# Altium schematic symbol library Schlib1.SchLib: 3 symbols
Pins are listed as number, name and electrical type; pins without a type are passive.

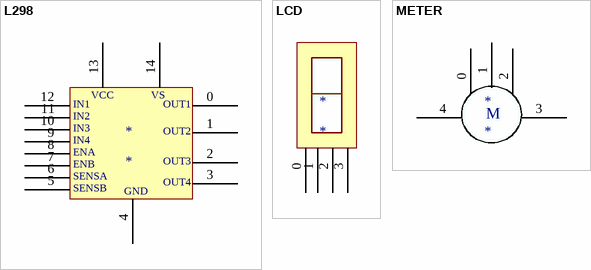
[diagram p0: symbols L298 to METER]

## L298
designator *
pins: 0, 1, 2, 3, 4, 5, 6, 7, 8, 9, 10, 11, 12, 13, 14
text: VCC; VS; IN1; OUT1; IN2; IN3; OUT2; IN4; ENA; ENB; OUT3; SENSA; SENSB; OUT4; GND

## LCD
designator *
pins: 0, 1, 2, 3

## METER
designator *
pins: 0, 1, 2, 3, 4
text: M